# Altium footprint library PCB1.PcbLib: 22 footprints (part 1 of 2)
Each footprint in its own frame and in the unit in brackets; x right, y up, seen from the top. Pads: shape width x height; smd on the part's side, far side on the other; paste and mask are expansions set on the pad; w line width, h text height; cw(c..) or ccw(c..) is an arc to the next point about the centre after c.
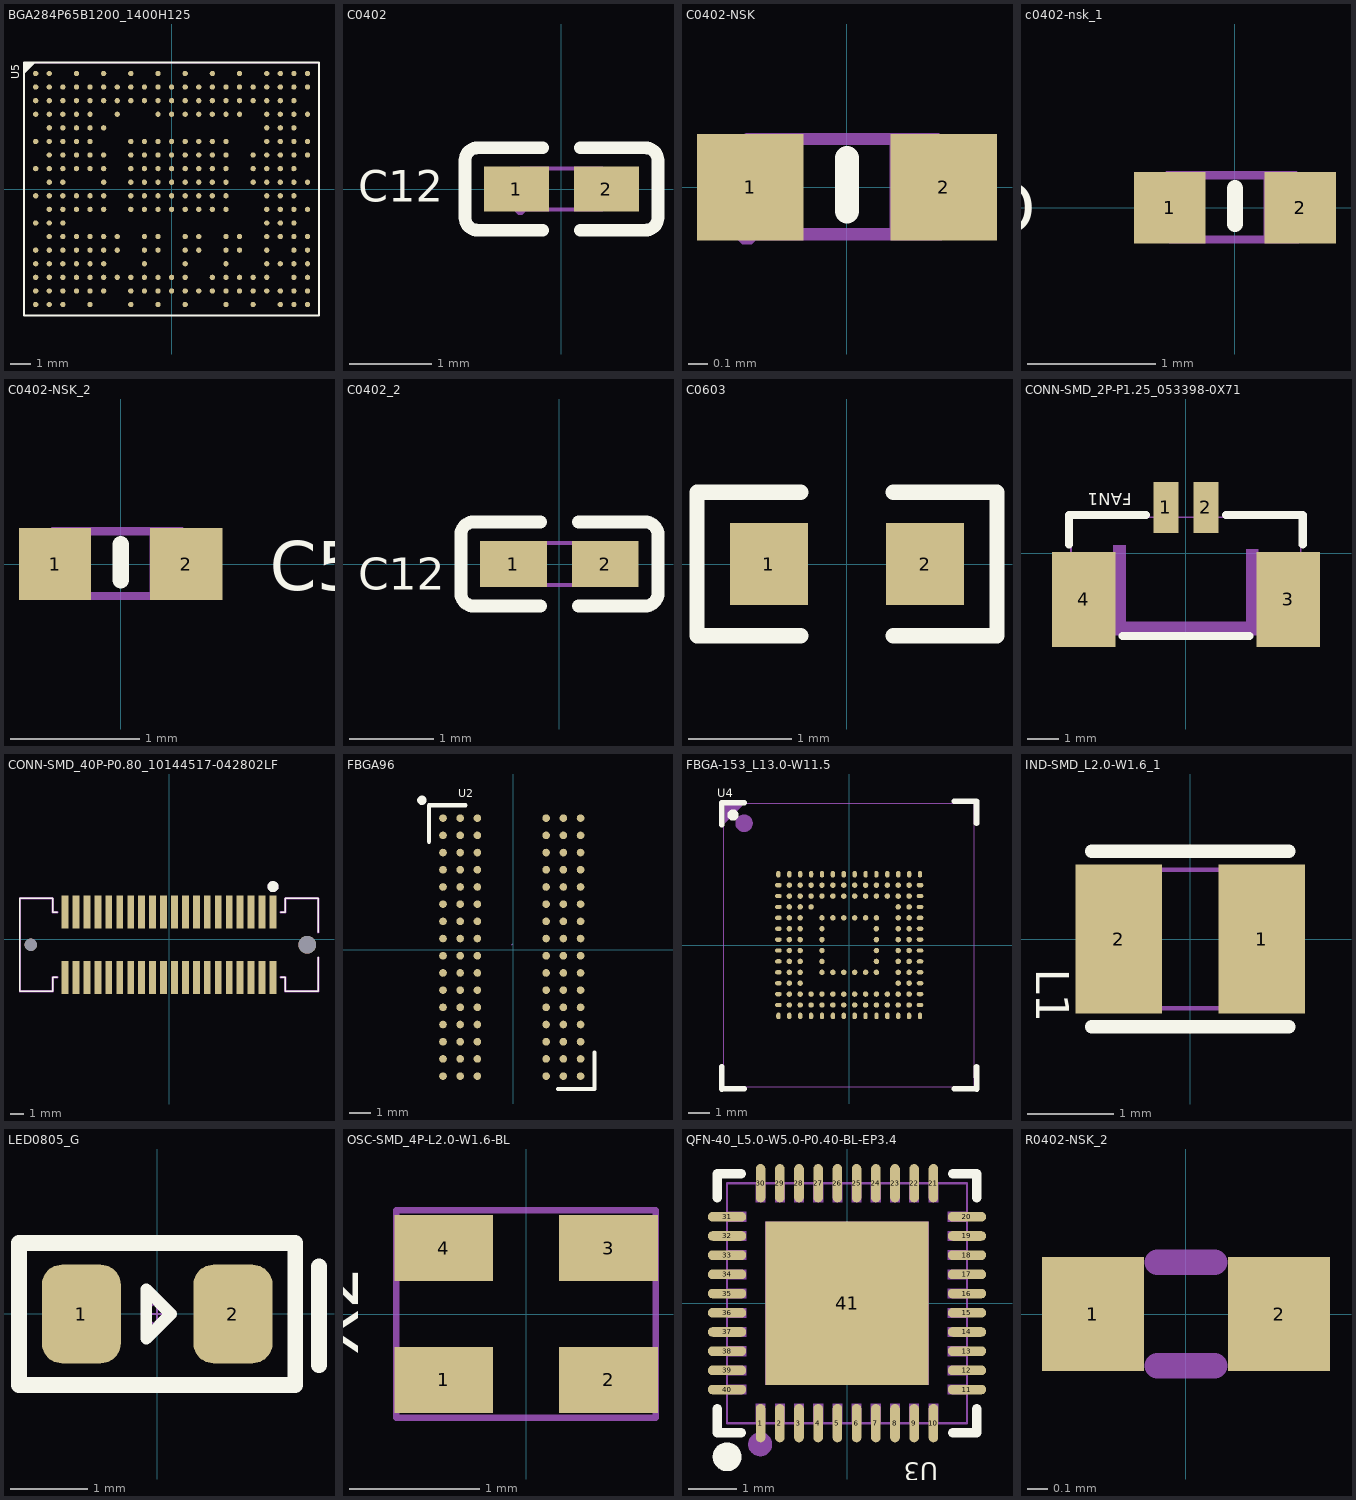
[diagram p0: the footprints below, top view; thin cyan lines are the x and y axes]

## BGA284P65B1200_1400H125 [mil]
pads (284):
  round 10 smd paste+0.98 mask+1.97: A1(-255.91,217.52) A2(-230.31,217.52) A4(-179.13,217.52) A6(-127.95,217.52) A8(-76.77,217.52) A10(-25.59,217.52) A12(25.59,217.52) A14(76.77,217.52) A16(127.95,217.52) A18(179.13,217.52) A19(204.72,217.52) A20(230.31,217.52) A21(255.91,217.52) B1(-255.91,191.93) B2(-230.31,191.93) B3(-204.72,191.93) B4(-179.13,191.93) B5(-153.54,191.93) B6(-127.95,191.93) B7(-102.36,191.93) B8(-76.77,191.93) B9(-51.18,191.93) B10(-25.59,191.93) B11(0,191.93) B12(25.59,191.93) B13(51.18,191.93) B14(76.77,191.93) B15(102.36,191.93) B16(127.95,191.93) B17(153.54,191.93) B18(179.13,191.93) B19(204.72,191.93) B20(230.31,191.93) B21(255.91,191.93) C1(-255.91,166.34) C2(-230.31,166.34) C3(-204.72,166.34) C4(-179.13,166.34) C5(-153.54,166.34) C6(-127.95,166.34) C7(-102.36,166.34) C8(-76.77,166.34) C9(-51.18,166.34) C10(-25.59,166.34) C11(0,166.34) C12(25.59,166.34) C13(51.18,166.34) C14(76.77,166.34) C15(102.36,166.34) C16(127.95,166.34) C17(153.54,166.34) C18(179.13,166.34) C19(204.72,166.34) C20(230.31,166.34) D1(-255.91,140.75) D2(-230.31,140.75) D3(-204.72,140.75) D4(-179.13,140.75) D5(-153.54,140.75) D7(-102.36,140.75) D10(-25.59,140.75) D11(0,140.75) D12(25.59,140.75) D13(51.18,140.75) D14(76.77,140.75) D15(102.36,140.75) D16(127.95,140.75) D18(179.13,140.75) D19(204.72,140.75) D20(230.31,140.75) D21(255.91,140.75) E2(-230.31,115.16) E3(-204.72,115.16) E4(-179.13,115.16) E5(-153.54,115.16) E6(-127.95,115.16) E18(179.13,115.16) E19(204.72,115.16) E20(230.31,115.16) F1(-255.91,89.57) F2(-230.31,89.57) F3(-204.72,89.57) F4(-179.13,89.57) F5(-153.54,89.57) F8(-76.77,89.57) F9(-51.18,89.57) F10(-25.59,89.57) F11(0,89.57) F12(25.59,89.57) F13(51.18,89.57) F14(76.77,89.57) F15(102.36,89.57) F18(179.13,89.57) F19(204.72,89.57) F20(230.31,89.57) F21(255.91,89.57) G2(-230.31,63.98) G3(-204.72,63.98) G4(-179.13,63.98) G5(-153.54,63.98) G6(-127.95,63.98) G8(-76.77,63.98) G9(-51.18,63.98) G10(-25.59,63.98) G11(0,63.98) G12(25.59,63.98) G13(51.18,63.98) G14(76.77,63.98) G15(102.36,63.98) G17(153.54,63.98) G18(179.13,63.98) G19(204.72,63.98) G20(230.31,63.98) G21(255.91,63.98) H1(-255.91,38.39) H2(-230.31,38.39) H3(-204.72,38.39) H4(-179.13,38.39) H5(-153.54,38.39) H6(-127.95,38.39) H8(-76.77,38.39) H9(-51.18,38.39) H10(-25.59,38.39) H11(0,38.39) H12(25.59,38.39) H13(51.18,38.39) H14(76.77,38.39) H15(102.36,38.39) H17(153.54,38.39) H18(179.13,38.39) H19(204.72,38.39) H20(230.31,38.39) J2(-230.31,12.8) J3(-204.72,12.8) J6(-127.95,12.8) J8(-76.77,12.8) J9(-51.18,12.8) J10(-25.59,12.8) J11(0,12.8) J12(25.59,12.8) J13(51.18,12.8) J14(76.77,12.8) J15(102.36,12.8) J17(153.54,12.8) J18(179.13,12.8) J19(204.72,12.8) J20(230.31,12.8) J21(255.91,12.8) K1(-255.91,-12.8) K2(-230.31,-12.8) K3(-204.72,-12.8) K4(-179.13,-12.8) K5(-153.54,-12.8) K6(-127.95,-12.8) K8(-76.77,-12.8) K9(-51.18,-12.8) K10(-25.59,-12.8) K11(0,-12.8) K12(25.59,-12.8) K13(51.18,-12.8) K14(76.77,-12.8) K15(102.36,-12.8) K18(179.13,-12.8) K19(204.72,-12.8) K20(230.31,-12.8) L2(-230.31,-38.39) L3(-204.72,-38.39) L4(-179.13,-38.39) L5(-153.54,-38.39) L6(-127.95,-38.39) L8(-76.77,-38.39) L9(-51.18,-38.39) L10(-25.59,-38.39) L11(0,-38.39) L12(25.59,-38.39) L13(51.18,-38.39) L14(76.77,-38.39) L15(102.36,-38.39) L18(179.13,-38.39) L19(204.72,-38.39) L20(230.31,-38.39) L21(255.91,-38.39) M1(-255.91,-63.98) M2(-230.31,-63.98) M3(-204.72,-63.98) M18(179.13,-63.98) M19(204.72,-63.98) M20(230.31,-63.98) N2(-230.31,-89.57) N3(-204.72,-89.57) N4(-179.13,-89.57) N5(-153.54,-89.57) N6(-127.95,-89.57) N7(-102.36,-89.57) N9(-51.18,-89.57) N10(-25.59,-89.57) N12(25.59,-89.57) N13(51.18,-89.57) N15(102.36,-89.57) N16(127.95,-89.57) N18(179.13,-89.57) N19(204.72,-89.57) N20(230.31,-89.57) N21(255.91,-89.57) P1(-255.91,-115.16) P2(-230.31,-115.16) P3(-204.72,-115.16) P4(-179.13,-115.16) P5(-153.54,-115.16) P6(-127.95,-115.16) P7(-102.36,-115.16) P9(-51.18,-115.16) P10(-25.59,-115.16) P12(25.59,-115.16) P13(51.18,-115.16) P15(102.36,-115.16) P16(127.95,-115.16) P18(179.13,-115.16) P20(230.31,-115.16) P21(255.91,-115.16) R1(-255.91,-140.75) R2(-230.31,-140.75) R3(-204.72,-140.75) R4(-179.13,-140.75) R5(-153.54,-140.75) R6(-127.95,-140.75) R9(-51.18,-140.75) R12(25.59,-140.75) R15(102.36,-140.75) R18(179.13,-140.75) R19(204.72,-140.75) R20(230.31,-140.75) R21(255.91,-140.75) T1(-255.91,-166.34) T2(-230.31,-166.34) T3(-204.72,-166.34) T4(-179.13,-166.34) T5(-153.54,-166.34) T6(-127.95,-166.34) T7(-102.36,-166.34) T8(-76.77,-166.34) T9(-51.18,-166.34) T10(-25.59,-166.34) T11(0,-166.34) T12(25.59,-166.34) T14(76.77,-166.34) T15(102.36,-166.34) T16(127.95,-166.34) T17(153.54,-166.34) T18(179.13,-166.34) T20(230.31,-166.34) T21(255.91,-166.34) U1(-255.91,-191.93) U2(-230.31,-191.93) U3(-204.72,-191.93) U4(-179.13,-191.93) U5(-153.54,-191.93) U6(-127.95,-191.93) U8(-76.77,-191.93) U9(-51.18,-191.93) U10(-25.59,-191.93) U11(0,-191.93) U12(25.59,-191.93) U13(51.18,-191.93) U14(76.77,-191.93) U15(102.36,-191.93) U16(127.95,-191.93) U17(153.54,-191.93) U18(179.13,-191.93) U19(204.72,-191.93) U20(230.31,-191.93) U21(255.91,-191.93) V1(-255.91,-217.52) V2(-230.31,-217.52) V3(-204.72,-217.52) V5(-153.54,-217.52) V8(-76.77,-217.52) V10(-25.59,-217.52) V12(25.59,-217.52) V15(102.36,-217.52) V17(153.54,-217.52) V19(204.72,-217.52) V20(230.31,-217.52) V21(255.91,-217.52)
Top Overlay:
  region: -277.56,238.19 -256.81,238.19 -277.56,217.44
  lines w3.94: -277.56,-238.19 277.56,-238.19 277.56,238.19 -277.56,238.19 -277.56,-238.19
  text "U5" at -287.32,206.73 h15
Mechanical 1:
  lines w1: 276.77,-238.19 -277.56,-238.19 ; -277.56,-238.19 -277.56,238.19 ; -277.56,-238.19 -277.56,238.19 ; -277.56,-238.19 277.56,-238.19 277.56,238.19 ; -277.56,238.19 277.56,238.19 ; -277.56,238.19 277.56,238.19

## C0402 [mm]
pads (2):
  rect 0.79x0.54 smd paste-100 mask+0.051: 1(-0.545,0) 2(0.545,0)
Top Overlay:
  lines w0.152: -0.226,-0.499 -1.016,-0.499 cw(c-1.016,-0.346) -1.169,-0.346 -1.169,0.346 cw(c-1.016,0.346) -1.016,0.499 -0.226,0.499 ; 0.226,-0.499 1.016,-0.499 ccw(c1.016,-0.346) 1.169,-0.346 1.169,0.346 ccw(c1.016,0.346) 1.016,0.499 0.226,0.499
  text "C12" at -2.464,-0.152 h0.38
Top Paste:
  region: 0.78,0.225 0.78,-0.225 0.73,-0.275 0.25,-0.275 0.18,-0.225 0.18,0.225 0.25,0.275 0.73,0.275
  region: -0.18,0.225 -0.18,-0.225 -0.25,-0.275 -0.73,-0.275 -0.78,-0.225 -0.78,0.225 -0.73,0.275 -0.25,0.275
Mechanical 15:
  region: 0.5,-0.25 0.5,0.25 0.25,0.25 0.25,-0.25
  region: -0.5,-0.25 -0.5,0.25 -0.25,0.25 -0.25,-0.25
  region: -0.44,-0.25 -0.44,-0.225 -0.475,-0.19 -0.525,-0.19 -0.56,-0.225 -0.56,-0.25 -0.56,-0.275 -0.525,-0.31 -0.475,-0.31 -0.44,-0.275 -0.44,-0.25
  lines w0.051: -0.5,-0.25 0.5,-0.25 0.5,0.25 -0.5,0.25 -0.5,-0.25

## C0402-NSK [mil]
pads (2):
  rect 22x22 smd paste+0 mask+2: 1(-19.99,0) 2(20.01,0)
Top Overlay:
  lines w5: 0,-5 0,6
Mechanical 15:
  region: -23.02,-9.47 -23,-8.51 -21.62,-7.16 -19.7,-7.16 -18.32,-8.51 -18.3,-9.47 -18.32,-10.43 -19.7,-11.78 -21.62,-11.78 -23,-10.43 -23.02,-9.47
  region: 18.7,-9.47 18.7,10.21 8.86,10.21 8.86,-9.47
  region: -20.67,-9.47 -20.67,10.21 -10.83,10.21 -10.83,-9.47
  lines w2: -20.67,-9.47 -20.67,10.21 18.7,10.21 18.7,-9.47 -20.67,-9.47 ; -20,-10 -20,9.69 19.37,9.69 19.37,-10 -20,-10

## c0402-nsk_1 [mil]
pads (2):
  rect 22x22 smd paste+0 mask+2: 1(-20,0) 2(20,0)
Top Overlay:
  lines w5: 0,-5 0,6
  text "C86" at -61,7.5 h15
Mechanical 15:
  region: 18.7,-9.47 18.7,10.21 8.86,10.21 8.86,-9.47
  region: -20.67,-9.47 -20.67,10.21 -10.83,10.21 -10.83,-9.47
  lines w2: -20.67,-9.47 -20.67,10.21 18.7,10.21 18.7,-9.47 -20.67,-9.47 ; -20,-10 -20,9.69 19.37,9.69 19.37,-10 -20,-10

## C0402-NSK_2 [mil]
pads (2):
  rect 22x22 smd paste+0 mask+2: 1(-19.99,0) 2(20.01,0)
Top Overlay:
  lines w5: 0,-5 0,6
  text "C58" at 45.5,-8 h15
Mechanical 15:
  region: 18.7,-9.47 18.7,10.21 8.86,10.21 8.86,-9.47
  region: -20.67,-9.47 -20.67,10.21 -10.83,10.21 -10.83,-9.47
  lines w2: -20.67,-9.47 -20.67,10.21 18.7,10.21 18.7,-9.47 -20.67,-9.47 ; -20,-10 -20,9.69 19.37,9.69 19.37,-10 -20,-10

## C0402_2 [mm]
pads (2):
  rect 0.79x0.54 smd paste-100 mask+0.051: 1(-0.545,0) 2(0.545,0)
Top Overlay:
  lines w0.152: -0.226,-0.499 -1.016,-0.499 cw(c-1.016,-0.346) -1.169,-0.346 -1.169,0.346 cw(c-1.016,0.346) -1.016,0.499 -0.226,0.499 ; 0.226,-0.499 1.016,-0.499 ccw(c1.016,-0.346) 1.169,-0.346 1.169,0.346 ccw(c1.016,0.346) 1.016,0.499 0.226,0.499
  text "C12" at -2.388,-0.305 h0.38
Top Paste:
  region: -0.18,0.225 -0.18,-0.225 -0.25,-0.275 -0.73,-0.275 -0.78,-0.225 -0.78,0.225 -0.73,0.275 -0.25,0.275
  region: 0.78,0.225 0.78,-0.225 0.73,-0.275 0.25,-0.275 0.18,-0.225 0.18,0.225 0.25,0.275 0.73,0.275
Mechanical 15:
  region: -0.5,-0.25 -0.5,0.25 -0.25,0.25 -0.25,-0.25
  region: 0.5,-0.25 0.5,0.25 0.25,0.25 0.25,-0.25
  lines w0.051: -0.5,-0.25 -0.5,0.25 0.5,0.25 0.5,-0.25 -0.5,-0.25

## C0603 [mm]
pads (2):
  rect 0.76x0.8 smd: 1(-0.76,0) 2(0.76,0)
Top Overlay:
  lines w0.15: -0.45,-0.7 -1.46,-0.7 -1.46,0.7 -0.45,0.7 ; 0.45,-0.7 1.46,-0.7 1.46,0.7 0.45,0.7

## CONN-SMD_2P-P1.25_053398-0X71 [mil]
pads (4):
  rect 31.5x63 smd paste+0 mask+2: 1(-24.8,57.1) 2(24.8,57.1)
  rect 78.7x118.1 smd paste+0 mask+2: 3(127.2,-57.1) 4(-127.1,-57.1)
Top Overlay:
  lines w10: -145,11.1 -145,47.7 -49.6,47.7 ; -78.7,-102.4 78.7,-102.4 ; 49.6,47.6 145,47.6 145,11.1
  text "FAN1" at -67,75 h15
Mechanical 6:
  region: -90,10 -75,10 -75,-85 75,-85 75,5 90,5 90,-100 -90,-100
Mechanical 15:
  region: 31.1,64.8 31.1,39.2 18.5,39.2 18.5,64.8
  region: -18.5,64.8 -18.5,39.2 -31.1,39.2 -31.1,64.8
  region: 150.6,-13.8 150.6,-100.4 91.5,-100.4 91.5,-13.8
  region: -91.5,-13.8 -91.5,-100.4 -150.6,-100.4 -150.6,-13.8
  lines w2: -142.7,-100.6 -142.7,45.1 142.7,45.1 142.7,-100.6 -142.7,-100.6

## CONN-SMD_40P-P0.80_10144517-042802LF [mil]
pads (42):
  rect 19.68x94.49 smd paste+0 mask+2: 1(299.2,77.76) 2(299.2,-111.22) 5(236.21,77.76) 6(236.21,-111.22) 9(173.22,77.76) 10(173.22,-111.22) 11(141.72,77.76) 12(141.72,-111.22) 15(78.73,77.76) 16(78.73,-111.22) 19(15.74,77.76) 20(15.74,-111.22) 21(-15.76,77.76) 22(-15.76,-111.22) 25(-78.75,77.76) 26(-78.75,-111.22) 29(-141.74,77.76) 30(-141.74,-111.22) 31(-173.24,77.76) 32(-173.24,-111.22) 35(-236.23,77.76) 36(-236.23,-111.22) 39(-299.22,77.76) 40(-299.22,-111.22)
  rect 19.69x94.49 smd paste+0 mask+2: 3(267.71,77.76) 4(267.71,-111.22) 7(204.71,77.76) 8(204.71,-111.22) 13(110.23,77.76) 14(110.23,-111.22) 17(47.23,77.76) 18(47.23,-111.22) 23(-47.25,77.76) 24(-47.25,-111.22) 27(-110.25,77.76) 28(-110.25,-111.22) 33(-204.73,77.76) 34(-204.73,-111.22) 37(-267.73,77.76) 38(-267.73,-111.22)
  round 35.43 hole 35.43 unplated paste+0: ""(-397.65,-16.73)
  round 51.18 hole 51.18 unplated paste+0: ""(397.63,-16.73)
Top Overlay:
  circle w15.75: c299.2,150.59 r7.87
  lines w5: -321.46,-110.23 -334.64,-110.23 -334.64,-150.59 -429.13,-150.59 -429.13,117.13 -334.64,117.13 -334.64,76.77 -321.46,76.77 ; 321.47,-110.24 334.65,-110.24 334.65,-150.6 429.14,-150.6 429.14,-52.96 ; 321.46,76.77 334.64,76.77 334.64,117.13 429.13,117.13 429.13,19.49
Mechanical 15:
  circle w15.75: c-397.65,-16.73 r7.87
  circle w23.62: c397.63,-16.73 r11.81
  circle w15.75: c299.2,150.59 r7.87
  region: 321.45,-107.73 334.63,-107.73 335.13,-107.73 336.05,-108.11 336.75,-108.81 337.13,-109.73 337.13,-110.23 337.13,-148.09 426.62,-148.09 426.62,-52.95 426.62,-51.91 428.09,-50.45 430.16,-50.45 431.62,-51.91 431.62,-52.95 431.62,-150.59 431.62,-151.08 431.24,-152 430.54,-152.71 429.62,-153.09 429.12,-153.09 334.63,-153.09 334.13,-153.09 333.22,-152.71 332.51,-152 332.13,-151.08 332.13,-150.59 332.13,-112.73 321.45,-112.73 320.42,-112.73 318.95,-111.26 318.95,-109.19 320.42,-107.73 321.45,-107.73
  region: 321.45,79.27 332.13,79.27 332.13,117.13 332.13,117.63 332.51,118.55 333.22,119.25 334.13,119.63 334.63,119.63 429.12,119.63 429.62,119.63 430.54,119.25 431.24,118.55 431.62,117.63 431.62,117.13 431.62,19.49 431.62,18.46 430.16,16.99 428.09,16.99 426.62,18.46 426.62,19.49 426.62,114.63 337.13,114.63 337.13,76.77 337.13,76.28 336.75,75.36 336.05,74.65 335.13,74.27 334.63,74.27 321.45,74.27 320.42,74.27 318.95,75.74 318.95,77.81 320.42,79.27 321.45,79.27
  region: -321.47,-112.73 -332.15,-112.73 -332.15,-150.59 -332.15,-151.08 -332.53,-152 -333.23,-152.71 -334.15,-153.09 -334.65,-153.09 -429.14,-153.09 -429.64,-153.09 -430.55,-152.71 -431.26,-152 -431.64,-151.08 -431.64,-150.59 -431.64,117.13 -431.64,117.63 -431.26,118.55 -430.55,119.25 -429.64,119.63 -429.14,119.63 -334.65,119.63 -334.15,119.63 -333.23,119.25 -332.53,118.55 -332.15,117.63 -332.15,117.13 -332.15,79.27 -321.47,79.27 -320.43,79.27 -318.97,77.81 -318.97,75.74 -320.43,74.27 -321.47,74.27 -334.65,74.27 -335.15,74.27 -336.06,74.65 -336.77,75.36 -337.15,76.28 -337.15,76.77 -337.15,114.63 -426.64,114.63 -426.64,-148.09 -337.15,-148.09 -337.15,-110.23 -337.15,-109.73 -336.77,-108.81 -336.06,-108.11 -335.15,-107.73 -334.65,-107.73 -321.47,-107.73 -320.43,-107.73 -318.97,-109.19 -318.97,-111.26 -320.43,-112.73 -321.47,-112.73

## FBGA96 [mil]
pads (96):
  round 14 smd: A1(-128.4,241.4) A2(-96.9,241.4) A3(-65.4,241.4) A7(60.6,241.4) A8(92.1,241.4) A9(123.6,241.4) B1(-128.4,209.9) B2(-96.9,209.9) B3(-65.4,209.9) B7(60.6,209.9) B8(92.1,209.9) B9(123.6,209.9) C1(-128.4,178.4) C2(-96.9,178.4) C3(-65.4,178.4) C7(60.6,178.4) C8(92.1,178.4) C9(123.6,178.4) D1(-128.4,146.9) D2(-96.9,146.9) D3(-65.4,146.9) D7(60.6,146.9) D8(92.1,146.9) D9(123.6,146.9) E1(-128.4,115.4) E2(-96.9,115.4) E3(-65.4,115.4) E7(60.6,115.4) E8(92.1,115.4) E9(123.6,115.4) F1(-128.4,83.9) F2(-96.9,83.9) F3(-65.4,83.9) F7(60.6,83.9) F8(92.1,83.9) F9(123.6,83.9) G1(-128.4,52.4) G2(-96.9,52.4) G3(-65.4,52.4) G7(60.6,52.4) G8(92.1,52.4) G9(123.6,52.4) H1(-128.4,20.9) H2(-96.9,20.9) H3(-65.4,20.9) H7(60.6,20.9) H8(92.1,20.9) H9(123.6,20.9) J1(-128.4,-10.6) J2(-96.9,-10.6) J3(-65.4,-10.6) J7(60.6,-10.6) J8(92.1,-10.6) J9(123.6,-10.6) K1(-128.4,-42.1) K2(-96.9,-42.1) K3(-65.4,-42.1) K7(60.6,-42.1) K8(92.1,-42.1) K9(123.6,-42.1) L1(-128.4,-73.6) L2(-96.9,-73.6) L3(-65.4,-73.6) L7(60.6,-73.6) L8(92.1,-73.6) L9(123.6,-73.6) M1(-128.4,-105.1) M2(-96.9,-105.1) M3(-65.4,-105.1) M7(60.6,-105.1) M8(92.1,-105.1) M9(123.6,-105.1) N1(-128.4,-136.6) N2(-96.9,-136.6) N3(-65.4,-136.6) N7(60.6,-136.6) N8(92.1,-136.6) N9(123.6,-136.6) P1(-128.4,-168.1) P2(-96.9,-168.1) P3(-65.4,-168.1) P7(60.6,-168.1) P8(92.1,-168.1) P9(123.6,-168.1) R1(-128.4,-199.6) R2(-96.9,-199.6) R3(-65.4,-199.6) R7(60.6,-199.6) R8(92.1,-199.6) R9(123.6,-199.6) T1(-128.4,-231.1) T2(-96.9,-231.1) T3(-65.4,-231.1) T7(60.6,-231.1) T8(92.1,-231.1) T9(123.6,-231.1)
Top Overlay:
  lines w7.9: -154,198 -154,265 -87.1,265 ; 82.2,-254.7 149.1,-254.7 149.1,-187.8
  lines w15.7: -167.69,273.91 ccw(c-167,274) -166.31,274 ccw(c-167,274) -167.69,274.1
  text "U2" at -100.77,279.82 h15
Mechanical 1:
  lines w0.5: -2.2,9.1 -0.2,11.1

## FBGA-153_L13.0-W11.5 [mm]
pads (153):
  oval 0.2x0.305 smd paste-100 mask+0.051: A1(-3.25,3.25) A2(-2.75,3.25) A3(-2.25,3.25) A4(-1.75,3.25) A5(-1.25,3.25) A6(-0.75,3.25) A7(-0.25,3.25) A8(0.25,3.25) A9(0.75,3.25) A10(1.25,3.25) A11(1.75,3.25) A12(2.25,3.25) A13(2.75,3.25) A14(3.25,3.25) P1(-3.25,-3.25) P2(-2.75,-3.25) P3(-2.25,-3.25) P4(-1.75,-3.25) P5(-1.25,-3.25) P6(-0.75,-3.25) P7(-0.25,-3.25) P8(0.25,-3.25) P9(0.75,-3.25) P10(1.25,-3.25) P11(1.75,-3.25) P12(2.25,-3.25) P13(2.75,-3.25) P14(3.25,-3.25)
  oval 0.305x0.2 smd paste-100 mask+0.051: B1(-3.25,2.75) B14(3.25,2.75) C1(-3.25,2.25) C14(3.25,2.25) D1(-3.25,1.75) D14(3.25,1.75) E1(-3.25,1.25) E14(3.25,1.25) F1(-3.25,0.75) F14(3.25,0.75) G1(-3.25,0.25) G14(3.25,0.25) H1(-3.25,-0.25) H14(3.25,-0.25) J1(-3.25,-0.75) J14(3.25,-0.75) K1(-3.25,-1.25) K14(3.25,-1.25) L1(-3.25,-1.75) L14(3.25,-1.75) M1(-3.25,-2.25) M14(3.25,-2.25) N1(-3.25,-2.75) N14(3.25,-2.75)
  round 0.25 smd paste-100 mask+0.051: B2(-2.75,2.75) B3(-2.25,2.75) B4(-1.75,2.75) B5(-1.25,2.75) B6(-0.75,2.75) B7(-0.25,2.75) B8(0.25,2.75) B9(0.75,2.75) B10(1.25,2.75) B11(1.75,2.75) B12(2.25,2.75) B13(2.75,2.75) C2(-2.75,2.25) C3(-2.25,2.25) C4(-1.75,2.25) C5(-1.25,2.25) C6(-0.75,2.25) C7(-0.25,2.25) C8(0.25,2.25) C9(0.75,2.25) C10(1.25,2.25) C11(1.75,2.25) C12(2.25,2.25) C13(2.75,2.25) D2(-2.75,1.75) D3(-2.25,1.75) D4(-1.75,1.75) D12(2.25,1.75) D13(2.75,1.75) E2(-2.75,1.25) E3(-2.25,1.25) E5(-1.25,1.25) E6(-0.75,1.25) E7(-0.25,1.25) E8(0.25,1.25) E9(0.75,1.25) E10(1.25,1.25) E12(2.25,1.25) E13(2.75,1.25) F2(-2.75,0.75) F3(-2.25,0.75) F5(-1.25,0.75) F10(1.25,0.75) F12(2.25,0.75) F13(2.75,0.75) G2(-2.75,0.25) G3(-2.25,0.25) G5(-1.25,0.25) G10(1.25,0.25) G12(2.25,0.25) G13(2.75,0.25) H2(-2.75,-0.25) H3(-2.25,-0.25) H5(-1.25,-0.25) H10(1.25,-0.25) H12(2.25,-0.25) H13(2.75,-0.25) J2(-2.75,-0.75) J3(-2.25,-0.75) J5(-1.25,-0.75) J10(1.25,-0.75) J12(2.25,-0.75) J13(2.75,-0.75) K2(-2.75,-1.25) K3(-2.25,-1.25) K5(-1.25,-1.25) K6(-0.75,-1.25) K7(-0.25,-1.25) K8(0.25,-1.25) K9(0.75,-1.25) K10(1.25,-1.25) K12(2.25,-1.25) K13(2.75,-1.25) L2(-2.75,-1.75) L3(-2.25,-1.75) L12(2.25,-1.75) L13(2.75,-1.75) M2(-2.75,-2.25) M3(-2.25,-2.25) M4(-1.75,-2.25) M5(-1.25,-2.25) M6(-0.75,-2.25) M7(-0.25,-2.25) M8(0.25,-2.25) M9(0.75,-2.25) M10(1.25,-2.25) M11(1.75,-2.25) M12(2.25,-2.25) M13(2.75,-2.25) N2(-2.75,-2.75) N3(-2.25,-2.75) N4(-1.75,-2.75) N5(-1.25,-2.75) N6(-0.75,-2.75) N7(-0.25,-2.75) N8(0.25,-2.75) N9(0.75,-2.75) N10(1.25,-2.75) N11(1.75,-2.75) N12(2.25,-2.75) N13(2.75,-2.75)
Top Overlay:
  circle w0.254: c-5.334,5.969 r0.127
  lines w0.254: -5.841,-5.587 -5.843,-6.605 -4.825,-6.603 ; -5.841,5.524 -5.842,6.541 -4.825,6.54 ; 4.826,-6.604 5.843,-6.605 5.842,-5.588 ; 4.825,6.603 5.843,6.605 5.841,5.587
  text "U4" at -6.046,6.782 h0.38
Top Paste:
  drawing of 153 lines, arcs and shapes, not listed
Mechanical 6:
  circle w0.4: c-4.826,5.588 r0.2
  region: -4.826,6.477 -5.715,6.477 -5.715,5.588
Mechanical 15:
  lines w0.051: -5.75,-6.5 -5.75,6.5 5.75,6.5 5.75,-6.5 -5.75,-6.5

## IND-SMD_L2.0-W1.6_1 [mm]
pads (2):
  rect 1x1.72 smd paste+0 mask+0.051: 1(0.828,0) 2(-0.828,0)
Top Overlay:
  lines w0.152: -1.143,-1.016 1.143,-1.016 ; -1.143,1.016 1.143,1.016
  text "L1" at -1.785,-0.344 h0.38
Mechanical 15:
  region: 0.4,0.8 1,0.8 1,-0.8 0.4,-0.8
  region: -1,0.8 -0.4,0.8 -0.4,-0.8 -1,-0.8
  lines w0.051: -1,-0.8 -1,0.8 1,0.8 1,-0.8 -1,-0.8

## LED0805_G [mil] "绿色0805LED            联系卖家 免费查找封装"
pads (2):
  rrect50% 40x50 smd: 1(-38.4,0) 2(38.4,0)
Top Overlay:
  lines w6: -5.5,-12.5 7,0 -5.5,12.5 -5.5,-12.5
  lines w8: 82,-26 82,24 ; -70,-36 -70,36 70,36 70,-36 -70,-36
Mechanical 15:
  circle w1: c0,0 r5
  lines w1: -7.87,0 7.87,0 ; 0,-7.87 0,7.87
3D body: height 26.34, standoff -0.04, extent -39.37,-24.65 39.37,24.64
3D body: height 31.69, standoff 12.01, extent -29.53,-24.6 29.53,24.6

## OSC-SMD_4P-L2.0-W1.6-BL [mil]
pads (4):
  rect 30x20 smd: 1(-25,-20) 2(25,-20) 3(25,20) 4(-25,20)
Top Overlay:
  text "X2" at -51,-12.5 h15
Mechanical 15:
  lines w2: -39.37,-31.5 -39.37,31.5 39.37,31.5 39.37,-31.5 -39.37,-31.5

## QFN-40_L5.0-W5.0-P0.40-BL-EP3.4 [mm]
pads (41):
  oval 0.2x0.8 smd paste+0 mask+0.05: 1(-1.8,-2.499) 2(-1.4,-2.499) 3(-1,-2.499) 4(-0.6,-2.499) 5(-0.2,-2.499) 6(0.2,-2.499) 7(0.6,-2.499) 8(1,-2.499) 9(1.4,-2.499) 10(1.8,-2.499) 21(1.8,2.499) 22(1.4,2.499) 23(1,2.499) 24(0.6,2.499) 25(0.2,2.499) 26(-0.2,2.499) 27(-0.6,2.499) 28(-1,2.499) 29(-1.4,2.499) 30(-1.8,2.499)
  oval 0.8x0.2 smd paste+0 mask+0.05: 11(2.499,-1.8) 12(2.499,-1.4) 13(2.499,-1) 14(2.499,-0.6) 15(2.499,-0.2) 16(2.499,0.2) 17(2.499,0.6) 18(2.499,1) 19(2.499,1.4) 20(2.499,1.8) 31(-2.499,1.8) 32(-2.499,1.4) 33(-2.499,1) 34(-2.499,0.6) 35(-2.499,0.2) 36(-2.499,-0.2) 37(-2.499,-0.6) 38(-2.499,-1) 39(-2.499,-1.4) 40(-2.499,-1.8)
  rect 3.4x3.4 smd paste+0 mask+0.05: 41(0,0)
Top Overlay:
  lines w0.2: -2.7,-2.2 -2.7,-2.7 -2.2,-2.7 ; -2.7,2.2 -2.7,2.7 -2.2,2.7 ; 2.2,-2.7 2.7,-2.7 2.7,-2.2 ; 2.2,2.7 2.7,2.7 2.7,2.2
  lines w0.3: -2.499,-3.051 ccw(c-2.498,-3.201) -2.497,-3.051
  text "U3" at 1.905,-3.327 h0.38
Mechanical 6:
  circle w0.25: c-1.81,-2.94 r0.125
Mechanical 15:
  drawing of 45 lines, arcs and shapes, not listed

## R0402-NSK_2 [mil]
pads (2):
  rect 19.68x22 smd paste+0 mask+2: 1(-18,0) 2(18,0)
Mechanical 6:
  lines w5: -5.5,-10 5.5,-10 ; -5.5,10 5.5,10